# EAGLE library part VP3* (library inductor-cooper)
TRANSFORMER/INDUCTOR
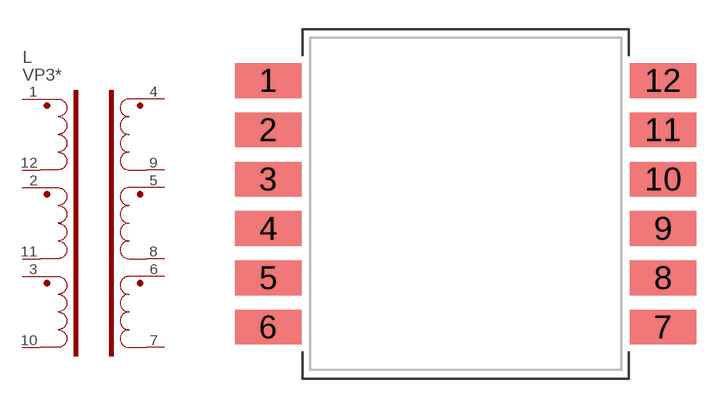
[diagram p2: symbol with the pads of VP3; footprint VP3]

Designator prefix L; gates P1=PNV P2=P P3=P S1=S S2=S S3=S

## VP3 (P1I: o)  [VP3]
1  P1:PH  pas
2  P2:PH  pas
3  P3:PH  pas
4  S1:SH  pas
5  S2:SH  pas
6  S3:SH  pas
7  S3:SC  pas
8  S2:SC  pas
9  S1:SC  pas
10  P3:PC  pas
11  P2:PC  pas
12  P1:PC  pas

## Footprint VP3 (pad centres in mm)
INDUCTOR/TRANSFORMER VP3 and VPH3
smd 3.43 x 1.79: 1 -10.16,6.35; 2 -10.16,3.81; 3 -10.16,1.27; 4 -10.16,-1.27; 5 -10.16,-3.81; 6 -10.16,-6.35; 7 10.16,-6.35; 8 10.16,-3.81; 9 10.16,-1.27; 10 10.16,1.27; 11 10.16,3.81; 12 10.16,6.35